# Altium schematic symbol library Lapwing.SchLib: 63 symbols
Pins are listed as number, name and electrical type; pins without a type are passive.

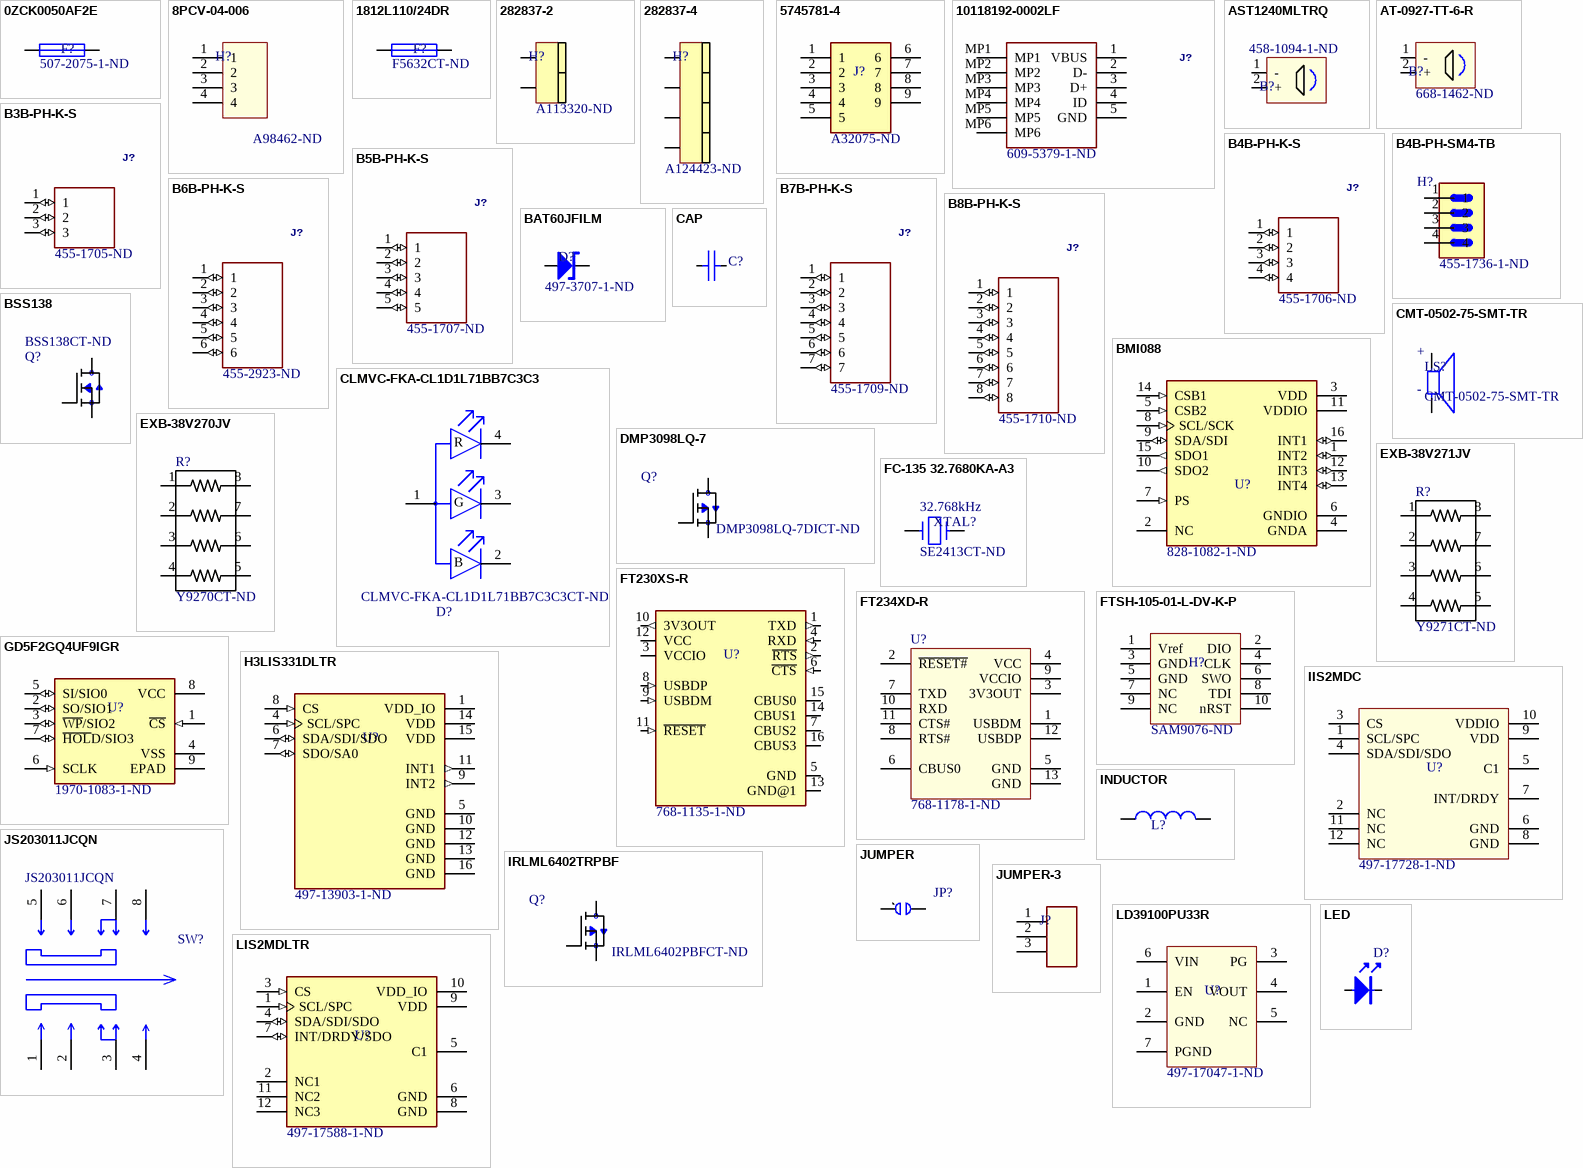
[diagram p0: symbols 0ZCK0050AF2E to LIS2MDLTR]

## 0ZCK0050AF2E
designator F?  Supplier Part Number 1: 507-2075-1-ND
PTC RESET FUSE 9V 500MA 0805; MF: Bel Fuse Inc.; MP: 0ZCK0050AF2E; Digi-Key_Part_Number: 507-2075-1-ND; Digi-Key_Purchase_URL: https://www.digikey.com.au/product-detail/en/bel-fuse-inc/0ZCK0050AF2E/507-2075-1-ND/6210552; Package: 0805; SnapEDA_Link: https://www.snapeda.com/parts/0ZCK0050AF2E/Bel%20Fuse/view-part/; Value: *; Supplier 1: Digi-Key
footprint F_0ZCK0050AF2E (Fuse)
pins: 1, 2

## 8PCV-04-006
designator H?  Supplier Part Number 1: A98462-ND
CONN BARRIER STRIP 4CIRC 0.438"; Supplier 1: Digi-Key
footprint H_8PCV-04-006 (BARREL BLOCK 4WAY 0.438")
pins: 1, 2, 3, 4

## 1812L110/24DR
designator F?  Supplier Part Number 1: F5632CT-ND
PTC RESET FUSE 24V 1.1A 1812; MF: Bel Fuse Inc.; MP: 0ZCK0050AF2E; Digi-Key_Part_Number: 507-2075-1-ND; Digi-Key_Purchase_URL: https://www.digikey.com.au/product-detail/en/bel-fuse-inc/0ZCK0050AF2E/507-2075-1-ND/6210552; Package: 0805; SnapEDA_Link: https://www.snapeda.com/parts/0ZCK0050AF2E/Bel%20Fuse/view-part/; Value: *; Supplier 1: Digi-Key
footprint F_1812L110/24DR (FUSE 1812)
pins: 1, 2

## 282837-2
designator H?  Supplier Part Number 1: A113320-ND
TERM BLK 2P SIDE ENT 5.08MM PCB; Supplier 1: Digi-Key
footprint H_282837-2 (TERMINAL BLOCK 2WAY)
pins: 1, 2

## 282837-4
designator H?  Supplier Part Number 1: A124423-ND
TERM BLK 4P SIDE ENT 5.08MM PCB; Supplier 1: Digi-Key
footprint H_282837-4
pins: 1, 2, 3, 4

## 5745781-4
designator J?  Supplier Part Number 1: A32075-ND
CONN D-SUB RCPT 9POS R/A SOLDER; Centerline_Pitch: 2.74 mm[.108 in]; Number_of_Positions: 9; MP: 5745781-4; Product_Type: Connector; MF: TE Connectivity; Digi-Key_Part_Number: A32075-ND; Digi-Key_Purchase_URL: https://www.digikey.com/product-detail/en/te-connectivity-amp-connectors/5745781-4/A32075-ND/808630?utm_source=snapeda&utm_medium=aggregator&utm_campaign=symbol; Package: None; Value: *; EU_RoHS_Compliance: Compliant; TE_purchase_URL: https://www.te.com/usa-en/product-5745781-4.html?te_bu=Cor&te_type=disp&te_campaign=seda_glo_cor-seda-global-disp-prtnr-fy19-seda-model-bom-cta_sma-317_1&elqCampaignId=32493; SnapEDA_Link: https://www.snapeda.com/parts/5745781-4/TE%20Connectivity%20AMP%20Connectors/view-part/2374514/?ref=snap; Comment_1: *; Supplier 1: Digi-Key
footprint J_5745781-4 (D-SUB 9WAY)
pins: 1, 2, 3, 4, 5, 6, 7, 8, 9

## 10118192-0002LF
designator J?  Supplier Part Number 1: 609-5379-1-ND
CONN RCPT USB2.0 MICRO B SMD R/A; MF: Amphenol ICC (FCI); MP: 10118192-0002LF; SnapEDA_Link: https://www.snapeda.com/parts/10118192-0002LF/Amphenol%20ICC/view-part/; Digi-Key_Purchase_URL: https://www.digikey.com.au/product-detail/en/amphenol-icc-fci/10118192-0002LF/609-5379-1-ND/8555650; Package: SMD; Digi-Key_Part_Number: 609-5379-1-ND; Value: *; Supplier 1: Digi-Key
footprint J_10118192-0002LF (MICROUSB)
pins: 1 VBUS, 2 D-, 3 D+, 4 ID, 5 GND, MP1, MP2, MP3, MP4, MP5, MP6

## AST1240MLTRQ
designator B?  Supplier Part Number 1: 458-1094-1-ND
AUDIO PIEZO TRANSDUCER 1-25V SMD; Supplier 1: Digi-Key
footprint AST1240MLTRQ
pins: 1 -, 2 +

## AT-0927-TT-6-R
designator B?  Supplier Part Number 1: 668-1462-ND
AUDIO MAGNETIC XDCR 2-4V TH; Supplier 1: Digi-Key
footprint AT-0927-TT-6-R (BUZZER TH)
pins: 1 -, 2 +

## B3B-PH-K-S
designator J?  Supplier Part Number 1: 455-1705-ND
CONN HEADER VERT 3POS 2MM; Manufacturer_Name: JST Sales America; Manufacturer_Part_Number: B3B-PH-K-S(LF)(SN); GateName_1: G$1; SymbolName_1: B3B-PH-K-S_LF__SN_; LibraryName: B3B-PH-K-S_LF__SN_; DeviceSetName: B3B-PH-K-S_LF__SN_; Package: SHDR3W50P0X200_1X3_790X450X600; Height: 6mm; Supplier 1: Digi-Key
footprint B3B-PH-K-S
pins: 1 (io), 2 (io), 3 (io)

## B4B-PH-K-S
designator J?  Supplier Part Number 1: 455-1706-ND
CONN HEADER VERT 4POS 2MM; Manufacturer_Name: JST (JAPAN SOLDERLESS TERMINALS); Manufacturer_Part_Number: B4B-PH-K-S(LF)(SN); GateName_1: G$1; SymbolName_1: B4B-PH-K-S_LF__SN_; LibraryName: B4B-PH-K-S_LF__SN_; DeviceSetName: B4B-PH-K-S_LF__SN_; Package: SHDR4W60P0X200_1X4_990X450X600; RS_Part_Number: 8201434P; RS_Price-Stock: http://uk.rs-online.com/web/p/products/8201434P; Height: 6mm; Supplier 1: Digi-Key
footprint B4B-PH-K-S
pins: 1 (io), 2 (io), 3 (io), 4 (io)

## B4B-PH-SM4-TB
designator H?  Supplier Part Number 1: 455-1736-1-ND
CONN HEADER SMD 4POS 2MM; MF: JST Sales; MP: B4B-PH-SM4-TB; Package: None; Value: *; Price: None; Availability: Unavailable; SnapEDA_Link: https://www.snapeda.com/parts/B4B-PH-SM4-TB/JST%20Sales%20America%20Inc./view-part/48901/?ref=snap; Supplier 1: Digi-Key
footprint H_B4B-PH-SM4-TB
pins: 1, 2, 3, 4

## B5B-PH-K-S
designator J?  Supplier Part Number 1: 455-1707-ND
CONN HEADER VERT 5POS 2MM; Manufacturer_Name: JST (JAPAN SOLDERLESS TERMINALS); Manufacturer_Part_Number: B5B-PH-K-S(LF)(SN); GateName_1: G$1; SymbolName_1: B5B-PH-K-S_LF__SN_; LibraryName: B5B-PH-K-S_LF__SN_; DeviceSetName: B5B-PH-K-S_LF__SN_; Package: SHDR5W60P0X200_1X5_1190X450X60; RS_Part_Number: 8201438P; RS_Price-Stock: http://uk.rs-online.com/web/p/products/8201438P; Height: 6mm; Supplier 1: Digi-Key
footprint B5B-PH-K-S
pins: 1 (io), 2 (io), 3 (io), 4 (io), 5 (io)

## B6B-PH-K-S
designator J?  Supplier Part Number 1: 455-2923-ND
CONN HEADER VERT 6POS 2MM; Manufacturer_Name: JST (JAPAN SOLDERLESS TERMINALS); Manufacturer_Part_Number: B6B-PH-K-S(LF)(SN); GateName_1: G$1; SymbolName_1: B6B-PH-K-S_LF__SN_; LibraryName: B6B-PH-K-S_LF__SN_; DeviceSetName: B6B-PH-K-S_LF__SN_; Package: SHDR6W50P0X200_1X6_1390X450X60; RS_Part_Number: 8201447P; RS_Price-Stock: http://uk.rs-online.com/web/p/products/8201447P; Height: 6mm; Supplier 1: Digi-Key
footprint B6B-PH-K-S
pins: 1 (io), 2 (io), 3 (io), 4 (io), 5 (io), 6 (io)

## B7B-PH-K-S
designator J?  Supplier Part Number 1: 455-1709-ND
CONN HEADER VERT 7POS 2MM; Manufacturer_Name: JST (JAPAN SOLDERLESS TERMINALS); Manufacturer_Part_Number: B7B-PH-K-S(LF)(SN); GateName_1: G$1; SymbolName_1: B7B-PH-K-S_LF__SN_; LibraryName: B7B-PH-K-S_LF__SN_; DeviceSetName: B7B-PH-K-S_LF__SN_; Package: SHDR7W50P0X200_1X7_1590X450X60; RS_Part_Number: 8201440P; RS_Price-Stock: http://uk.rs-online.com/web/p/products/8201440P; Height: 6mm; Supplier 1: Digi-Key
footprint B7B-PH-K-S
pins: 1 (io), 2 (io), 3 (io), 4 (io), 5 (io), 6 (io), 7 (io)

## B8B-PH-K-S
designator J?  Supplier Part Number 1: 455-1710-ND
CONN HEADER VERT 8POS 2MM; Manufacturer_Name: JST (JAPAN SOLDERLESS TERMINALS); Manufacturer_Part_Number: B8B-PH-K-S(LF)(SN); GateName_1: G$1; SymbolName_1: B8B-PH-K-S_LF__SN_; LibraryName: B8B-PH-K-S_LF__SN_; DeviceSetName: B8B-PH-K-S_LF__SN_; Package: SHDR8W50P0X200_1X8_1790X450X60; RS_Part_Number: 8201444P; RS_Price-Stock: http://uk.rs-online.com/web/p/products/8201444P; Height: 6mm; Supplier 1: Digi-Key
footprint B8B-PH-K-S
pins: 1 (io), 2 (io), 3 (io), 4 (io), 5 (io), 6 (io), 7 (io), 8 (io)

## BAT60JFILM
designator D?  Supplier Part Number 1: 497-3707-1-ND
DIODE SCHOTTKY 10V 3A SOD323; Supplier 1: Digi-Key
footprint D_BAT60JFILM (DIODE SOD323)
pins: A, K

## BMI088
designator U?  Supplier Part Number 1: 828-1082-1-ND
ACCELEROMETER 16LGA; MP: BMI088; MF: Bosch Sensortec; Availability: Unavailable; Price: None; Value: *; SnapEDA_Link: https://www.snapeda.com/parts/BMI088/Bosch%20Sensortec/view-part/2774026/?ref=snap; Package: VFLGA-16 Bosch Sensortec; Supplier 1: Digi-Key
footprint U_BMI088 (IC 16LGA)
pins: 1 INT2 (io), 2 NC, 3 VDD (power), 4 GNDA (power), 5 CSB2 (in), 6 GNDIO (power), 7 PS (in), 8 SCL/SCK (in), 9 SDA/SDI (io), 10 SDO2 (out), 11 VDDIO (power), 12 INT3 (io), 13 INT4 (io), 14 CSB1 (in), 15 SDO1 (out), 16 INT1 (io)

## BSS138
designator Q?  Supplier Part Number 1: BSS138CT-ND
MOSFET N-CH 50V 220MA SOT-23; Supplier 1: Digi-Key
footprint Q_BSS138 (FET SOT23)
pins: D, G, S

## CAP
designator C?
CAPACITOR; Value: *
footprint C0603
footprint C0805
footprint C1206
footprint SELECT (No Footprint Selected)
pins: 1 N/A, 2 N/A

## CLMVC-FKA-CL1D1L71BB7C3C3
designator D?  Supplier Part Number 1: CLMVC-FKA-CL1D1L71BB7C3C3CT-ND  (hidden comment: CLMVC-FKA-CL1D1L71BB7C3C3)
LED RGB CLEAR 4PLCC SMD; MF: Cree Inc.; Digi-Key_Part_Number: CLMVC-FKA-CL1D1L71BB7C3C3CT-ND; Digi-Key_Purchase_URL: https://www.digikey.com.au/product-detail/en/cree-inc/CLMVC-FKA-CL1D1L71BB7C3C3/CLMVC-FKA-CL1D1L71BB7C3C3CT-ND/9094273; MP: CLMVC-FKA-CL1D1L71BB7C3C3; Package: 4-PLCC; SnapEDA_Link: https://www.snapeda.com/parts/CLMVC-FKA-CL1D1L71BB7C3C3/Cree%20Inc./view-part/; Value: *; Supplier 1: Digi-Key
footprint CLMVC-FKA (LED RGB)
pins: 1 COMMON ANODE, 2 BLUE C, 3 GREEN C, 4 RED C
text: R; G; B

## CMT-0502-75-SMT-TR
designator LS?
BUZZER, 5 MM, 2 MM DEEP, M, 3 V,; MF: CUI Devices; Price: None; Value: *; MP: CMT-0502-75-SMT-TR; Package: CUI Devices; CUI_purchase_URL: https://www.cuidevices.com/product/audio/buzzers/audio-transducers/cmt-0502-75-smt-tr?utm_source=snapeda.com&utm_medium=referral&utm_campaign=snapedaBOM; SnapEDA_Link: https://www.snapeda.com/parts/CMT-0502-75-SMT-TR/CUI%20Devices/view-part/3662555/?ref=snap; Availability: Unavailable
footprint XDCR_CMT-0502-75-SMT-TR
pins: N, P
text: +; -

## DMP3098LQ-7
designator Q?  Supplier Part Number 1: DMP3098LQ-7DICT-ND
MOSFET P-CH 30V 3.8A SOT23-3; MP: IRLML6402TRPBF; MF: Infineon; SnapEDA_Link: https://www.snapeda.com/parts/IRLML6402TRPBF/Infineon%20Technologies/view-part/?ref=snap; Digi-Key_Part_Number: IRLML6402PBFCT-ND; Package: SOT-23 Infineon; Digi-Key_Purchase_URL: https://www.digikey.com.au/product-detail/en/infineon-technologies/IRLML6402TRPBF/IRLML6402PBFCT-ND/812500?utm_source=snapeda&utm_medium=aggregator&utm_campaign=symbol; Value: *; Supplier 1: Digi-Key
footprint Q_DMP3098LQ-7 (FET SOT23)
pins: D, G, S

## EXB-38V270JV
designator R?  Supplier Part Number 1: Y9270CT-ND
RES ARRAY 4 RES 27 OHM 1206; SnapEDA_Link: https://www.snapeda.com/parts/EXB-38V270JV/Panasonic%20Electronic%20Components/view-part/382217/?ref=snap; Value: *; Supplier 1: Digi-Key
footprint R_EXB-38V270JV
pins: 1, 2, 3, 4, 5, 6, 7, 8

## EXB-38V271JV
designator R?  Supplier Part Number 1: Y9271CT-ND
RES ARRAY 4 RES 270 OHM 1206; SnapEDA_Link: https://www.snapeda.com/parts/EXB-38V270JV/Panasonic%20Electronic%20Components/view-part/382217/?ref=snap; Value: *; Supplier 1: Digi-Key
footprint R_EXB-38V271JV
pins: 1, 2, 3, 4, 5, 6, 7, 8

## FC-135 32.7680KA-A3
designator XTAL?  value 32.768kHz  Supplier Part Number 1: SE2413CT-ND
CRYSTAL 32.7680KHZ 12.5PF SMD; Supplier 1: Digi-Key
footprint X_FC-135
pins: 1, 2

## FT230XS-R
designator U?  Supplier Part Number 1: 768-1135-1-ND
IC USB SERIAL BASIC UART 16SSOP; MP: FT230XS; MF: FTDI, Future; Price: None; Availability: Unavailable; Package: SSOP-16 FTDI; SnapEDA_Link: https://www.snapeda.com/parts/FT230XS/FTDI%2C%20Future%20Technology%20Devices%20International%20Ltd/view-part/433817/?ref=snap; Value: *; Supplier 1: Digi-Key
footprint U_FT230XS (IC 16-SSOP)
pins: 1 TXD (out), 2 ~{RTS} (out), 3 VCCIO (power), 4 RXD (in), 5 GND (power), 6 ~{CTS} (in), 7 CBUS2 (io), 8 USBDP (in), 9 USBDM (in), 10 3V3OUT (out), 11 ~{RESET} (in), 12 VCC (power), 13 GND@1 (power), 14 CBUS1 (io), 15 CBUS0 (io), 16 CBUS3 (io)

## FT234XD-R
designator U?  Supplier Part Number 1: 768-1178-1-ND
IC USB SERIAL BASIC UART 12DFN; MP: FT234XD-R; MF: FTDI, Future Technology Devices International Ltd; Package: 12-VFDFN Exposed Pad; SnapEDA_Link: https://www.snapeda.com/parts/FT234XD-R/FTDI/view-part/?ref=digikey; Value: *; Digi-Key_Part_Number: 768-1178-1-ND; Digi-Key_Purchase_URL: https://www.digikey.com.au/product-detail/en/ftdi-future-technology-devices-international-ltd/FT234XD-R/768-1178-1-ND/3904926; Supplier 1: Digi-Key
footprint U_FT234XD-R (IC 12DFN)
pins: 1 USBDM, 2 ~{RESET#}, 3 3V3OUT, 4 VCC, 5 GND, 6 CBUS0, 7 TXD, 8 RTS#, 9 VCCIO, 10 RXD, 11 CTS#, 12 USBDP, 13 GND

## FTSH-105-01-L-DV-K-P
designator H?  Supplier Part Number 1: SAM9076-ND
CONN HEADER SMD 10POS 1.27MM; ComponentLink1Description: DigiKey; ComponentLink1URL: https://www.digikey.com.au/product-detail/en/samtec-inc/FTSH-105-01-L-DV-K-P/SAM9076-ND/6613384; Supplier 1: Digi-Key
footprint H_FTSH-105-01-L-DV-K-P (HEADER 10WAY 0.5")
pins: 1 Vref, 2 DIO, 3 GND, 4 CLK, 5 GND, 6 SWO, 7 NC, 8 TDI, 9 NC, 10 nRST

## GD5F2GQ4UF9IGR
designator U?  Supplier Part Number 1: 1970-1083-1-ND
SPI NAND FLASH; Supplier 1: Digi-Key
footprint U_GD5F2GQ4UF9IGR(IPC) (IC 8LGA (Source=IPC Dimensions))
pins: 1 ~{CS} (in), 2 SO/SIO1 (io), 3 ~{WP}/SIO2 (io), 4 VSS (power), 5 SI/SIO0 (io), 6 SCLK (in), 7 ~{HOL}D/SIO3 (io), 8 VCC (power), 9 EPAD

## H3LIS331DLTR
designator U?  Supplier Part Number 1: 497-13903-1-ND
ACCEL 100-400G I2C/SPI 16TFLGA; MP: H3LIS331DL; MF: STMicroelectronics; Package: TFLGA-16 STMicroelectronics; SnapEDA_Link: https://www.snapeda.com/parts/H3LIS331DL/STMicroelectronics/view-part/106099/?ref=snap; Availability: Unavailable; Price: None; Value: *; Supplier 1: Digi-Key
footprint U_H3LIS331DLTR (IC 16TFLGA)
pins: 1 VDD_IO (power), 4 SCL/SPC (in), 5 GND (power), 6 SDA/SDI/SDO (io), 7 SDO/SA0 (io), 8 CS (in), 9 INT2 (out), 10 GND (power), 11 INT1 (out), 12 GND (power), 13 GND (power), 14 VDD (power), 15 VDD (power), 16 GND (power)

## IIS2MDC
designator U?  Supplier Part Number 1: 497-17728-1-ND
SENSOR MR I2C/SPI 12LGA; Supplier 1: Digi-Key
footprint U_IIS2MDCTR (IC 12-LGA)
pins: 1 SCL/SPC, 2 NC, 3 CS, 4 SDA/SDI/SDO, 5 C1, 6 GND, 7 INT/DRDY, 8 GND, 9 VDD, 10 VDDIO, 11 NC, 12 NC

## INDUCTOR
designator L?
INDUCTOR; Revision: 1; Value: *
footprint FB0603
footprint FB0805
footprint SELECT (No Footprint Selected)
pins: 1, 2

## IRLML6402TRPBF
designator Q?  Supplier Part Number 1: IRLML6402PBFCT-ND
MOSFET P-CH 20V 3.7A SOT-23; MP: IRLML6402TRPBF; MF: Infineon; SnapEDA_Link: https://www.snapeda.com/parts/IRLML6402TRPBF/Infineon%20Technologies/view-part/?ref=snap; Digi-Key_Part_Number: IRLML6402PBFCT-ND; Package: SOT-23 Infineon; Digi-Key_Purchase_URL: https://www.digikey.com.au/product-detail/en/infineon-technologies/IRLML6402TRPBF/IRLML6402PBFCT-ND/812500?utm_source=snapeda&utm_medium=aggregator&utm_campaign=symbol; Value: *; Supplier 1: Digi-Key
footprint Q_IRLML6402TRPBF (FET SOT23)
pins: D, G, S

## JS203011JCQN
designator SW?
SWITCH SLIDE DP3T 300MA 6V; Manufacturer: C&K; Temperature_Range_High: +85°C; Temperature_Range_Low: -40°C; helpURL: https://upverter.com/upn/revision/6f40db4ea45800d9/; ComponentLink2Description: Datasheet; Temperature: to; Package: SW_SMT_13MM_3MM6_DP3T; Price: 0.461720331896; ComponentLink1URL: https://upverter.com/upn/revision/6f40db4ea45800d9/; ComponentLink1Description: Upverter; ComponentLink2URL: http://www.ck-components.com/media/1422/js.pdf; RoHS: TRUE; Digikey_Description: Slide Switch DP3T Surface Mount; Voltage Rating: 6V; Lead Free: yes; Digikey_Partnumber: CKN10725CT-ND; Mouser_Partnumber: 611-JS203011JCQN; Octopart Part Number: JS203011JCQN; Supplier 1: Digi-Key; Part Number: JS203011JCQN; Supplier Part Number 1: CKN10725CT-ND
footprint JS203011JCQN
pins: 1, 2, 3, 4, 5, 6, 7, 8

## JUMPER
designator JP?
JUMPER 2-WAY
footprint JP0603
footprint SELECT (No Footprint Selected)
footprint JUMPER-2 (PAD-JUMPER-2-NC_BY_TRACE_YES_SILK)
pins: 1, 2

## JUMPER-3
designator J?
JUMPER 3-WAY
footprint JUMPER-3 (Jumper 3 way)
pins: 1, 2, 3

## LD39100PU33R
designator U?  Supplier Part Number 1: 497-17047-1-ND
IC REG LINEAR 3.3V 1A 6DFN; Supplier 1: Digi-Key
footprint U_LD39100PU33R (IC DFN-6)
pins: 1 EN, 2 GND, 3 PG, 4 VOUT, 5 NC, 6 VIN, 7 PGND

## LED
designator D?
LED; Value: *
footprint LED0603
footprint LED0805
footprint SELECT (No Footprint Selected)
pins: A, K

## LIS2MDLTR
designator U?  Supplier Part Number 1: 497-17588-1-ND
SENSOR MR I2C/SPI 12LGA; MP: LIS2MDLTR; MF: STMicroelectronics; Value: *; SnapEDA_Link: https://www.snapeda.com/parts/LIS2MDLTR/STMicroelectronics/view-part/839420/?ref=snap; Package: WFLGA-12 STMicroelectronics; Digi-Key_Part_Number: 497-17588-1-ND; Digi-Key_Purchase_URL: https://www.digikey.com/product-detail/en/stmicroelectronics/LIS2MDLTR/497-17588-1-ND/7565512?utm_source=snapeda&utm_medium=aggregator&utm_campaign=symbol; Supplier 1: Digi-Key
footprint U_LIS2MDL (IC 12-WFLGA)
pins: 1 SCL/SPC (in), 2 NC1, 3 CS (in), 4 SDA/SDI/SDO (io), 5 C1, 6 GND (power), 7 INT/DRDY/SDO (io), 8 GND (power), 9 VDD (power), 10 VDD_IO (power), 11 NC2, 12 NC3

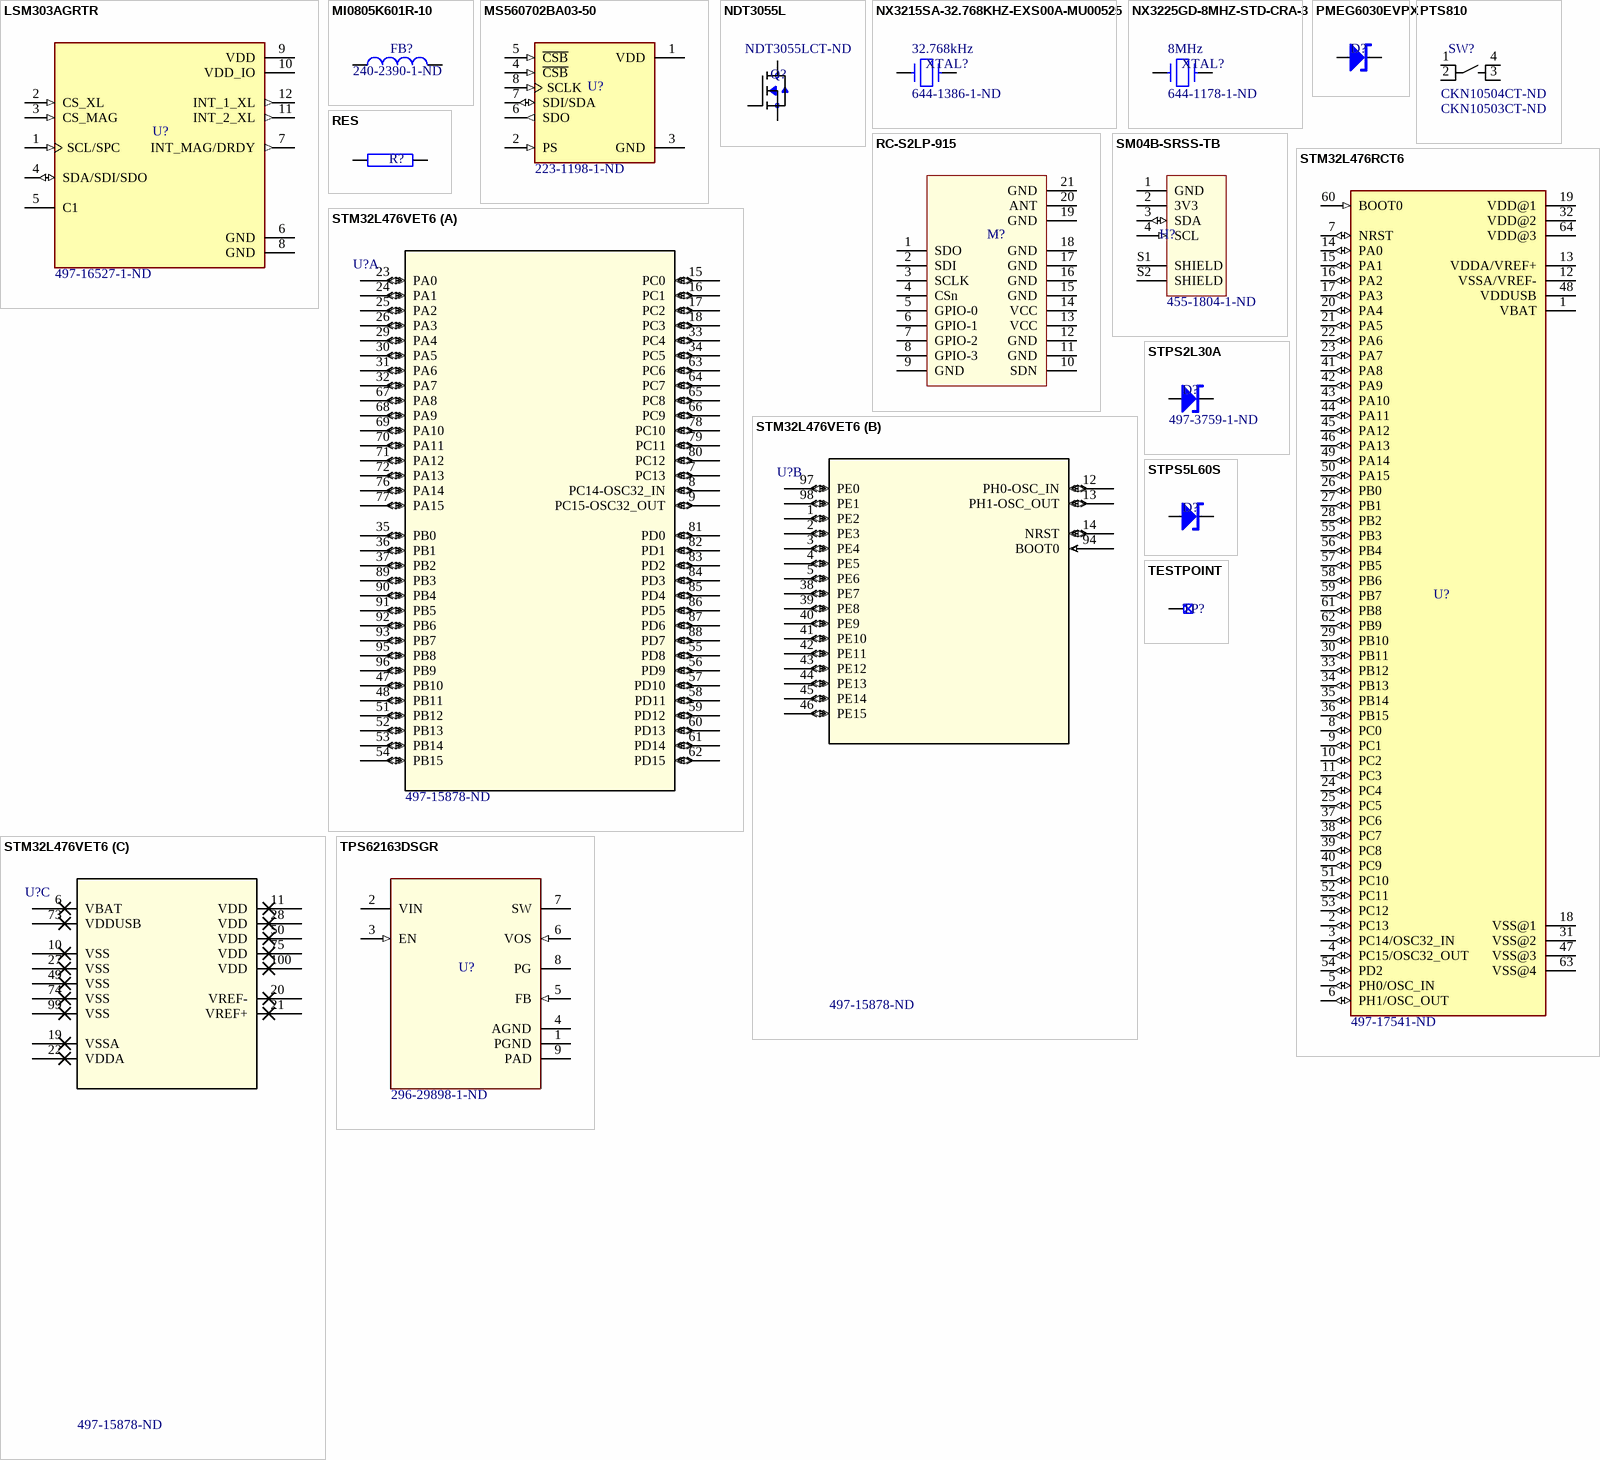
[diagram p1: symbols LSM303AGRTR to TPS62163DSGR]

## LSM303AGRTR
designator U?  Supplier Part Number 1: 497-16527-1-ND
IMU ACCEL/MAG I2C/SPI 12LGA; MP: LSM303AGR; MF: STMicroelectronics; Availability: Unavailable; Price: None; Value: *; SnapEDA_Link: https://www.snapeda.com/parts/LSM303AGR/STMicroelectronics/view-part/3601838/?ref=snap; Package: VFLGA-12 STMicroelectronics; Supplier 1: Digi-Key
footprint U_LSM303AGR (IC 12LGA)
pins: 1 SCL/SPC (in), 2 CS_XL (in), 3 CS_MAG (in), 4 SDA/SDI/SDO (io), 5 C1, 6 GND (power), 7 INT_MAG/DRDY (out), 8 GND (power), 9 VDD (power), 10 VDD_IO (power), 11 INT_2_XL (out), 12 INT_1_XL (out)

## MI0805K601R-10
designator FB?  Supplier Part Number 1: 240-2390-1-ND
FERRITE BEAD 600 OHM 0805 1LN; Supplier 1: Digi-Key
footprint MI0805K601R (FB/IND 0805)
pins: 1, 2

## MS560702BA03-50
designator U?  Supplier Part Number 1: 223-1198-1-ND
BAROMETRIC PRESSURE SENSOR; MP: MS560702BA03-50; MF: TE Connectivity; EU_RoHS_Compliance: Compliant; Package: SMD-8 TE Connectivity; TE_purchase_URL: https://www.te.com/usa-en/product-MS560702BA03-50.html?te_bu=Cor&te_type=disp&te_campaign=seda_glo_cor-seda-global-disp-prtnr-fy19-seda-model-bom-cta_sma-317_1&elqCampaignId=32493; SnapEDA_Link: https://www.snapeda.com/parts/MS560702BA03-50/TE%20Connectivity%20ALCOSWITCH%20Switches/view-part/480584/?ref=snap; Availability: Unavailable; Price: None; Value: *; Supplier 1: Digi-Key; Comment_1: *
footprint U_MS560702BA03-50 (IC 8SMD)
pins: 1 VDD (power), 2 PS (in), 3 GND (power), 4 ~{CSB} (in), 5 ~{CSB} (in), 6 SDO (out), 7 SDI/SDA (io), 8 SCLK (in)

## NDT3055L
designator Q?  Supplier Part Number 1: NDT3055LCT-ND
MOSFET N-CH 60V 4A SOT-223-4; Supplier 1: Digi-Key
footprint Q_NDT3055L
pins: D, G, S

## NX3215SA-32.768KHZ-EXS00A-MU00525
designator XTAL?  value 32.768kHz  Supplier Part Number 1: 644-1386-1-ND
CRYSTAL 32.768KHZ 6PF SMD; Supplier 1: Digi-Key
footprint X_NX3215SA
pins: 1, 2

## NX3225GD-8MHZ-STD-CRA-3
designator XTAL?  value 8MHz  Supplier Part Number 1: 644-1178-1-ND
CRYSTAL 8.0000MHZ 8PF SMD; Supplier 1: Digi-Key
footprint X_NX3225GD
pins: 1, 2

## PMEG6030EVPX
designator D?
DIODE SCHOTTKY 60V 3A SOD128
footprint D_PMEG6030EVPX (DIODE SOD128)
pins: A, K

## PTS810
designator SW?  Supplier Part Number 1: CKN10504CT-ND  Supplier Part Number 2: CKN10503CT-ND
SWITCH TACTILE SPST-NO 0.05A 16V; MF: C&K; MP: PTS810 SJx 250 SMTR LFS; Price: None; Availability: Unavailable; SnapEDA_Link: https://www.snapeda.com/parts/PTS810%20SJM%20250%20SMTR%20LFS/C%26K/view-part/?ref=snap; Package: None; Value: *; Supplier 1: Digi-Key; Supplier 2: Digi-Key
footprint SW_PTS810 (SWITCH)
pins: 1, 2, 3, 4

## RC-S2LP-915
designator M?
high performance ultra low power RF transceiver
footprint RC-S2LP-XXX (RF Module)
footprint RC-S2LP
pins: 1 SDO, 2 SDI, 3 SCLK, 4 CSn, 5 GPIO-0, 6 GPIO-1, 7 GPIO-2, 8 GPIO-3, 9 GND, 10 SDN, 11 GND, 12 GND, 13 VCC, 14 VCC, 15 GND, 16 GND, 17 GND, 18 GND, 19 GND, 20 ANT, 21 GND

## RES
designator R?
RESISTOR; Value: *
footprint R0603
footprint R0805
footprint R1206
footprint SELECT (No Footprint Selected)
footprint R0402 (Chip Resistor, 2-Leads, Body 1.0x0.5mm, IPC Medium Density)
pins: 1, 2

## SM04B-SRSS-TB
designator H?  Supplier Part Number 1: 455-1804-1-ND
CONN HEADER SMD R/A 4POS 1MM; MF: JST Sales America Inc.; MP: SM04B-SRSS-TB(LF)(SN); Digi-Key_Part_Number: 455-1804-1-ND; Digi-Key_Purchase_URL: https://www.digikey.com.au/product-detail/en/jst-sales-america-inc/SM04B-SRSS-TB-LF-SN/455-1804-1-ND/926875; Package: Header; SnapEDA_Link: https://www.snapeda.com/parts/SM04B-SRSS-TB(LF)(SN)/JST%20Sales/view-part/; Value: *; Supplier 1: Digi-Key
footprint H_SM04B-SRSS-TB (Header JST-SH 1.0mm)
pins: 1 GND (power), 2 3V3 (power), 3 SDA (io), 4 SCL (in), S1 SHIELD, S2 SHIELD

## STM32L476RCT6
designator U?  Supplier Part Number 1: 497-17541-ND
IC MCU 32BIT 256KB FLASH 64LQFP; MP: STM32L476RCT6; MF: STMicroelectronics; Package: LQFP-64 STMicroelectronics; SnapEDA_Link: https://www.snapeda.com/parts/STM32L476RCT6/STMicroelectronics/view-part/315426/?ref=snap; Availability: Unavailable; Price: None; Value: *; Supplier 1: Digi-Key
footprint U_STM32L476RCT6 (IC 64QFP)
pins: 1 VBAT (power), 2 PC13 (io), 3 PC14/OSC32_IN (io), 4 PC15/OSC32_OUT (io), 5 PH0/OSC_IN (io), 6 PH1/OSC_OUT (io), 7 NRST (io), 8 PC0 (io), 9 PC1 (io), 10 PC2 (io), 11 PC3 (io), 12 VSSA/VREF- (power), 13 VDDA/VREF+ (power), 14 PA0 (io), 15 PA1 (io), 16 PA2 (io), 17 PA3 (io), 18 VSS@1 (power), 19 VDD@1 (power), 20 PA4 (io), 21 PA5 (io), 22 PA6 (io), 23 PA7 (io), 24 PC4 (io), 25 PC5 (io), 26 PB0 (io), 27 PB1 (io), 28 PB2 (io), 29 PB10 (io), 30 PB11 (io), 31 VSS@2 (power), 32 VDD@2 (power), 33 PB12 (io), 34 PB13 (io), 35 PB14 (io), 36 PB15 (io), 37 PC6 (io), 38 PC7 (io), 39 PC8 (io), 40 PC9 (io), 41 PA8 (io), 42 PA9 (io), 43 PA10 (io), 44 PA11 (io), 45 PA12 (io), 46 PA13 (io), 47 VSS@3 (power), 48 VDDUSB (power), 49 PA14 (io), 50 PA15 (io), 51 PC10 (io), 52 PC11 (io), 53 PC12 (io), 54 PD2 (io), 55 PB3 (io), 56 PB4 (io), 57 PB5 (io), 58 PB6 (io), 59 PB7 (io), 60 BOOT0 (in), 61 PB8 (io), 62 PB9 (io), 63 VSS@4 (power), 64 VDD@3 (power)

## STM32L476VET6
designator U?  Supplier Part Number 1: 497-15878-ND
IC MCU 32BIT 512KB FLASH 100LQFP; Manufacturer_Part_Number: STM32L486VX; Vendor: ST Microelectronics; Copyright: Copyright (C) 2016 Accelerated Designs. All rights reserved; RefDes: RefDes; Type: DEV; Value: Value; Supplier 1: Digi-Key
footprint U_STM32L476VET6 (IC 100QFP)
part A pins: 7 PC13 (io), 8 PC14-OSC32_IN (io), 9 PC15-OSC32_OUT (io), 15 PC0 (io), 16 PC1 (io), 17 PC2 (io), 18 PC3 (io), 23 PA0 (io), 24 PA1 (io), 25 PA2 (io), 26 PA3 (io), 29 PA4 (io), 30 PA5 (io), 31 PA6 (io), 32 PA7 (io), 33 PC4 (io), 34 PC5 (io), 35 PB0 (io), 36 PB1 (io), 37 PB2 (io), 47 PB10 (io), 48 PB11 (io), 51 PB12 (io), 52 PB13 (io), 53 PB14 (io), 54 PB15 (io), 55 PD8 (io), 56 PD9 (io), 57 PD10 (io), 58 PD11 (io), 59 PD12 (io), 60 PD13 (io), 61 PD14 (io), 62 PD15 (io), 63 PC6 (io), 64 PC7 (io), 65 PC8 (io), 66 PC9 (io), 67 PA8 (io), 68 PA9 (io), 69 PA10 (io), 70 PA11 (io), 71 PA12 (io), 72 PA13 (io), 76 PA14 (io), 77 PA15 (io), 78 PC10 (io), 79 PC11 (io), 80 PC12 (io), 81 PD0 (io), 82 PD1 (io), 83 PD2 (io), 84 PD3 (io), 85 PD4 (io), 86 PD5 (io), 87 PD6 (io), 88 PD7 (io), 89 PB3 (io), 90 PB4 (io), 91 PB5 (io), 92 PB6 (io), 93 PB7 (io), 95 PB8 (io), 96 PB9 (io)
part B pins: 1 PE2 (io), 2 PE3 (io), 3 PE4 (io), 4 PE5 (io), 5 PE6 (io), 12 PH0-OSC_IN (io), 13 PH1-OSC_OUT (io), 14 NRST (io), 38 PE7 (io), 39 PE8 (io), 40 PE9 (io), 41 PE10 (io), 42 PE11 (io), 43 PE12 (io), 44 PE13 (io), 45 PE14 (io), 46 PE15 (io), 94 BOOT0 (in), 97 PE0 (io), 98 PE1 (io)
part C pins: 6 VBAT (power), 10 VSS (power), 11 VDD (power), 19 VSSA (power), 20 VREF- (power), 21 VREF+ (power), 22 VDDA (power), 27 VSS (power), 28 VDD (power), 49 VSS (power), 50 VDD (power), 73 VDDUSB (power), 74 VSS (power), 75 VDD (power), 99 VSS (power), 100 VDD (power)

## STPS2L30A
designator D?  Supplier Part Number 1: 497-3759-1-ND
DIODE SCHOTTKY 30V 2A SMA; Supplier 1: Digi-Key
footprint D_STPS2L30A
pins: A, K

## STPS5L60S
designator D?
DIODE SCHOTTKY 60V 5A SMC
footprint D_STPS5L60S (DIODE SMB)
pins: A, K

## TESTPOINT
designator TP?  (value not drawn)
Test Point; Value: *
footprint TP40 (Test Pad, Round 40mil)
footprint TP60 (Test Pad, Round 60mil)
pins: 1

## TPS62163DSGR
designator U?  Supplier Part Number 1: 296-29898-1-ND
IC REG BUCK 5V 1A 8WSON; PartNumber: TPS62163DSGR; Alternate_PartNumber: TPS62163DSGT; Manufacturer: Texas Instruments; PIN_COUNT: 9; Application_BuildNumber: *; PackageReference: DSG0008A; MountType: SMT; CompType: IC; RoHS: Y; RefDes: RefDes; Type: DEV; Value: Value; Copyright: Copyright (C) 2018 Accelerated Designs. All rights reserved; Supplier 1: Digi-Key
footprint U_TPS62163 (IC 8WSON)
pins: 1 PGND (power), 2 VIN (power), 3 EN (in), 4 AGND (power), 5 FB (in), 6 VOS (in), 7 SW (power), 8 PG (hiz), 9 PAD (power)

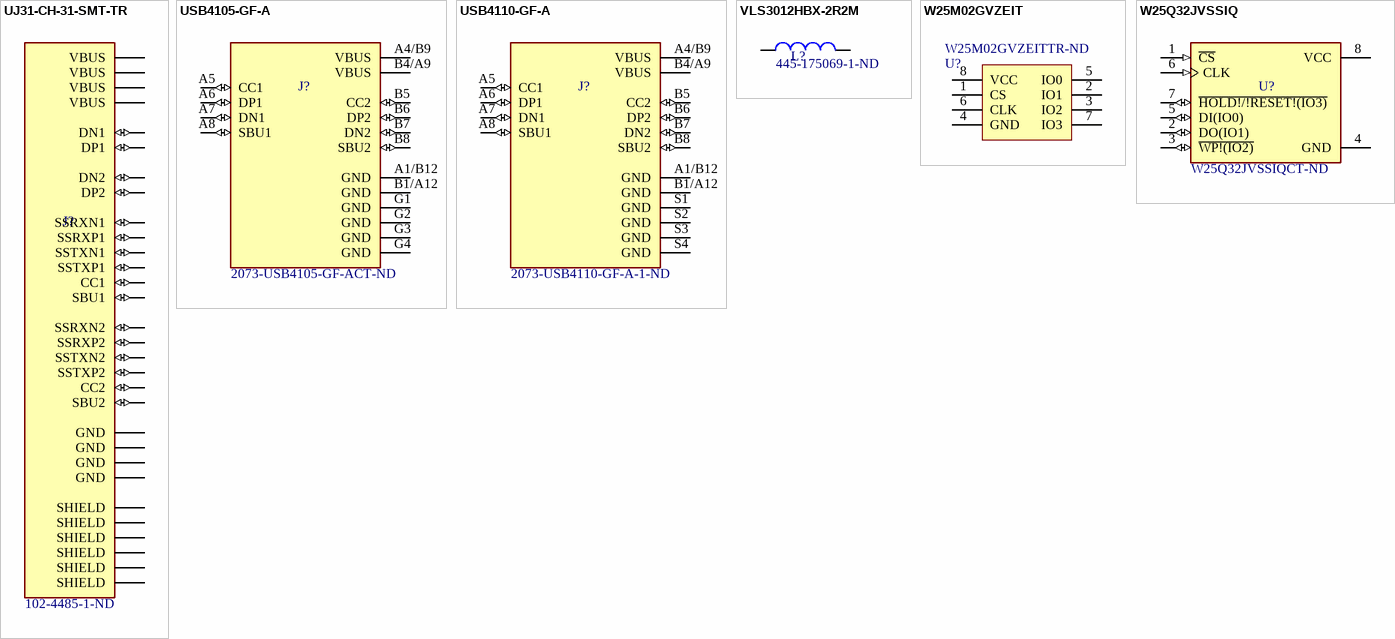
[diagram p2: symbols UJ31-CH-31-SMT-TR to W25Q32JVSSIQ]

## UJ31-CH-31-SMT-TR
designator J?  Supplier Part Number 1: 102-4485-1-ND
CONN RCPT USB3.1 TYPEC 24POS R/A; MP: UJ31-CH-31-SMT-TR; MF: CUI Devices; Price: None; Availability: Unavailable; Package: None; CUI_purchase_URL: https://www.cuidevices.com/product/interconnect/connectors/usb-connectors/uj31-ch-smt-series?utm_source=snapeda.com&utm_medium=referral&utm_campaign=snapedaBOM; Value: *; SnapEDA_Link: https://www.snapeda.com/parts/UJ31-CH-31-SMT-TR/CUI%20Devices/view-part/2708680/?ref=snap; Supplier 1: Digi-Key
footprint J_UJ31-CH-31-SMT-TR (USBC TH/SMD)
pins: A1 GND (power), A2 SSTXP1 (io), A3 SSTXN1 (io), A4 VBUS (power), A5 CC1 (io), A6 DP1 (io), A7 DN1 (io), A8 SBU1 (io), A9 VBUS (power), A10 SSRXN2 (io), A11 SSRXP2 (io), A12 GND (power), B1 GND (power), B2 SSTXP2 (io), B3 SSTXN2 (io), B4 VBUS (power), B5 CC2 (io), B6 DP2 (io), B7 DN2 (io), B8 SBU2 (io), B9 VBUS (power), B10 SSRXN1 (io), B11 SSRXP1 (io), B12 GND (power), SH1 SHIELD (power), SH2 SHIELD (power), SH3 SHIELD (power), SH4 SHIELD (power), SH5 SHIELD (power), SH6 SHIELD (power)

## USB4105-GF-A
designator J?  Supplier Part Number 1: 2073-USB4105-GF-ACT-ND
CONN RCPT USB2.0 TYPEC 5A; MF: GCT; MP: USB4105-GF-A; SnapEDA_Link: https://www.snapeda.com/parts/USB4105-GF-A/Global%20Connector%20Technology/view-part/4423780/?ref=snap; Price: None; Availability: Unavailable; Package: None; Value: *; Supplier 1: Digi-Key
footprint H_GCT_USB4105-GF-A
pins: A1/B12 GND (power), A4/B9 VBUS (power), A5 CC1 (io), A6 DP1 (io), A7 DN1 (io), A8 SBU1 (io), B1/A12 GND (power), B4/A9 VBUS (power), B5 CC2 (io), B6 DP2 (io), B7 DN2 (io), B8 SBU2 (io), G1 GND (power), G2 GND (power), G3 GND (power), G4 GND (power)

## USB4110-GF-A
designator J?  Supplier Part Number 1: 2073-USB4110-GF-A-1-ND
CONN USB 2.0 TYPE-C R/A SMT; MP: USB4110-GF-A; MF: GCT; Digi-Key_Purchase_URL: https://www.digikey.com/product-detail/en/gct/USB4110-GF-A/2073-USB4110-GF-A-1-ND/10384548?utm_source=snapeda&utm_medium=aggregator&utm_campaign=symbol; Value: *; Package: None; SnapEDA_Link: https://www.snapeda.com/parts/USB4110-GF-A/Global%20Connector%20Technology/view-part/4001167/?ref=snap; Digi-Key_Part_Number: 2073-USB4110-GF-A-1-ND; Supplier 1: Digi-Key
footprint H_GCT_USB4110-GF-A
pins: A1/B12 GND (power), A4/B9 VBUS (power), A5 CC1 (io), A6 DP1 (io), A7 DN1 (io), A8 SBU1 (io), B1/A12 GND (power), B4/A9 VBUS (power), B5 CC2 (io), B6 DP2 (io), B7 DN2 (io), B8 SBU2 (io), S1 GND (power), S2 GND (power), S3 GND (power), S4 GND (power)

## VLS3012HBX-2R2M
designator L?  Supplier Part Number 1: 445-175069-1-ND
FIXED IND 2.2UH 3.15A 106 MOHM; Revision: 1; Supplier 1: Digi-Key
footprint L_VLS3012HBX-2R2M (INDUCTOR)
pins: 1, 2

## W25M02GVZEIT
designator U?  Supplier Part Number 1: W25M02GVZEITTR-ND  (hidden comment: W25M02GVZEIT)
IC FLASH 2GBIT SPI 104MHZ 8WSON; Supplier 1: Digi-Key
footprint WSON_VZEIT_WIN-M
pins: 1 CS, 2 IO1, 3 IO2, 4 GND (power), 5 IO0, 6 CLK, 7 IO3, 8 VCC (power)

## W25Q32JVSSIQ
designator U?  Supplier Part Number 1: W25Q32JVSSIQCT-ND
IC FLASH 32M SPI 133MHZ 8SOIC; MF: Winbond; MP: W25Q32JVSSIQ; Package: SOIC-8 Winbond; Price: None; SnapEDA_Link: https://www.snapeda.com/parts/W25Q32JVSSIQ/Winbond%20Electronics/view-part/596953/?ref=snap; Availability: Unavailable; Value: *; Supplier 1: Digi-Key
footprint U_W25Q32JVSSIQ (IC 8-SOIC)
pins: 1 ~{CS} (in), 2 DO(IO1) (io), 3 ~{WP!(IO2)} (io), 4 GND (power), 5 DI(IO0) (io), 6 CLK (in), 7 ~{HOLD!/!RESET!(IO3)} (io), 8 VCC (power)